# Altium footprint library FM375_LQFP64_SOCKET.PcbLib: 5 footprints
Each footprint in its own frame and in the unit in brackets; x right, y up, seen from the top. Pads: shape width x height; smd on the part's side, far side on the other; paste and mask are expansions set on the pad; w line width, h text height; cw(c..) or ccw(c..) is an arc to the next point about the centre after c.
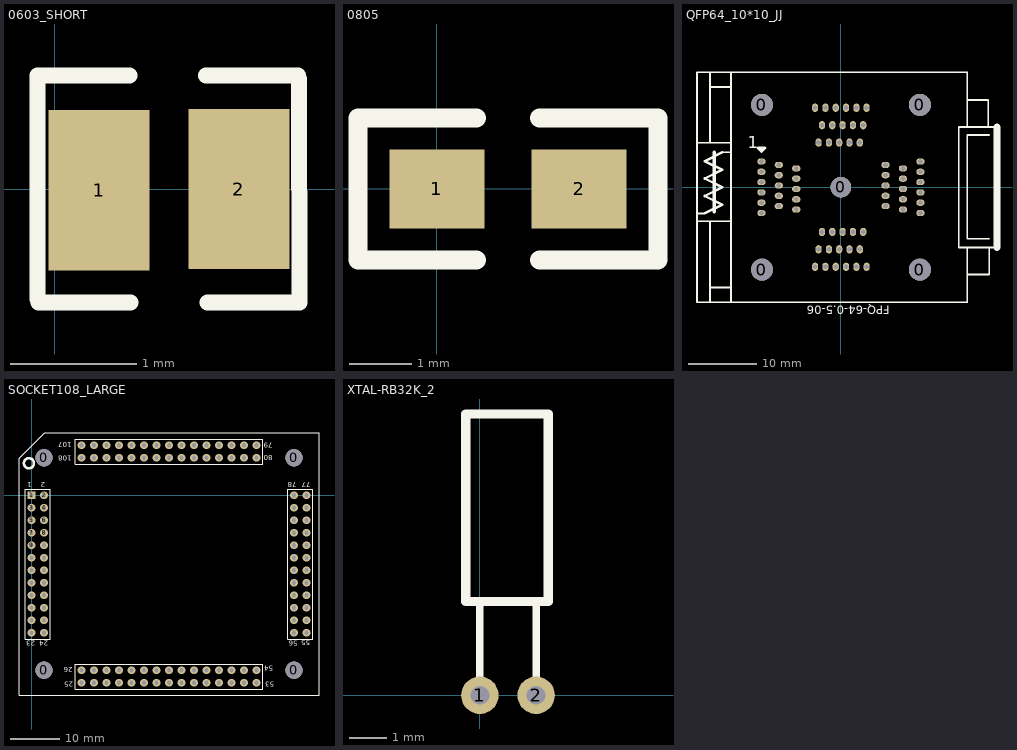
[diagram p0: the footprints below, top view; thin cyan lines are the x and y axes]

## 0603_SHORT [mm]
height 2.54
pads (2):
  rect 0.8x1.27 smd: 1(0.35,-0.01) 2(1.46,0)
Top Overlay:
  lines w0.127: -0.138,-0.874 -0.14,0.9 0.59,0.9 ; -0.13,-0.9 0.6,-0.9 ; 1.2,0.9 1.93,0.9 ; 1.21,-0.9 1.94,-0.9 1.938,0.874

## 0805 [mil]
height 200
pads (2):
  rect 60x50 smd: 1(0,0) 2(90,0)
Top Overlay:
  lines w12: 25,-45 -50,-45 -50,45 25,45 ; 65,-45 140,-45 140,45 65,45

## QFP64_10*10_JJ [mm]
pads (69):
  round 3.2 hole 3.2: 0(-11.5,-12) 0(-11.5,12) 0(11.5,-12) 0(11.5,12)
  round 3 hole 3: 0(0,0)
  oval 1.2x0.9 hole 0.7: 1(-11.58,3.75) 2(-9.04,3.25) 3(-6.5,2.75) 4(-11.58,2.25) 5(-9.04,1.75) 6(-6.5,1.25) 7(-11.58,0.75) 8(-9.04,0.25) 9(-6.5,-0.25) 10(-11.58,-0.75) 11(-9.04,-1.25) 12(-6.5,-1.75) 13(-11.58,-2.25) 14(-9.04,-2.75) 15(-6.5,-3.25) 16(-11.58,-3.75) 33(11.58,-3.75) 34(9.04,-3.25) 35(6.5,-2.75) 36(11.58,-2.25) 37(9.04,-1.75) 38(6.5,-1.25) 39(11.58,-0.75) 40(9.04,-0.25) 41(6.5,0.25) 42(11.58,0.75) 43(9.04,1.25) 44(6.5,1.75) 45(11.58,2.25) 46(9.04,2.75) 47(6.5,3.25) 48(11.58,3.75)
  oval 0.9x1.2 hole 0.7: 17(-3.75,-11.58) 18(-3.25,-9.04) 19(-2.75,-6.5) 20(-2.25,-11.58) 21(-1.75,-9.04) 22(-1.25,-6.5) 23(-0.75,-11.58) 24(-0.25,-9.04) 25(0.25,-6.5) 26(0.75,-11.58) 27(1.25,-9.04) 28(1.75,-6.5) 29(2.25,-11.58) 30(2.75,-9.04) 31(3.25,-6.5) 32(3.75,-11.58) 49(3.75,11.58) 50(3.25,9.04) 51(2.75,6.5) 52(2.25,11.58) 53(1.75,9.04) 54(1.25,6.5) 55(0.75,11.58) 56(0.25,9.04) 57(-0.25,6.5) 58(-0.75,11.58) 59(-1.25,9.04) 60(-1.75,6.5) 61(-2.25,11.58) 62(-2.75,9.04) 63(-3.25,6.5) 64(-3.75,11.58)
Top Overlay:
  lines w0.254: -20.955,-16.764 -20.955,-4.953 ; -20.941,-16.75 -19.036,-16.75 -16.002,-16.75 ; -20.828,-3.81 -19.812,-3.81 ; -19.05,-16.736 -19.05,-14.605 ; -19.05,-5.08 -19.05,-14.605 ; -17.272,5.08 -16.002,5.08 ; -16.002,-14.605 -19.05,-14.605 ; -16.002,-4.953 -16.51,-4.953 -20.828,-4.953 -20.955,-4.953 ; -16.002,6.477 -16.51,6.477 -19.05,6.477 ; -16.002,14.605 -19.05,14.605 ; 18.415,-12.7 21.59,-12.7 21.59,-8.763 ; 18.415,-8.763 18.415,-16.736 18.401,-16.75 16.75,-16.75 -16.002,-16.75 ; 18.415,8.763 18.415,16.736 18.401,16.75 16.75,16.75 -16.002,16.75 ; 18.415,12.7 21.463,12.7 21.463,8.763 ; 21.59,-7.493 18.415,-7.493 18.415,7.62 21.59,7.62 ; 22.733,-8.763 17.145,-8.763 17.145,8.763 22.733,8.763 ; -20.955,-4.953 -20.955,6.477 ; -20.955,6.477 -19.05,6.477 ; -20.955,6.477 -20.955,16.764 -20.941,16.75 -19.05,16.75 ; -19.05,6.477 -19.05,14.605 ; -19.05,14.605 -19.05,16.75 ; -19.05,16.75 -16.002,16.75 ; -16.002,-16.75 -16.002,16.75
  lines w0.381: -19.812,-3.81 -17.272,-2.54 -19.812,-1.27 -17.272,0 -19.812,1.27 -17.272,2.54 -19.812,3.81 -17.272,5.08 ; -12.065,5.715 -11.049,5.715 -11.557,5.207 -12.065,5.715
  lines w0.508: -18.415,-3.556 -18.415,5.08
  lines w1.016: 22.733,-8.763 22.733,8.763
  text "FPQ-64-0.5-06" at 7.112,-17.272 h1.2
  text "1" at -13.589,5.08 h3.05
Bottom Overlay:
  lines w0.381: -12.065,5.715 -11.049,5.715 -11.557,5.207 -12.065,5.715
  text "1" at -12.827,5.08 h3.05

## SOCKET108_LARGE [mil]
pads (112):
  round 137.8 hole 137.8: 0(100,-1400) 0(100,300) 0(2100,-1400) 0(2100,300)
  rect 62x62 hole 35: 1(0,0)
  round 62 hole 35: 2(100,0) 3(0,-100) 4(100,-100) 5(0,-200) 6(100,-200) 7(0,-300) 8(100,-300) 9(0,-400) 10(100,-400) 11(0,-500) 12(100,-500) 13(0,-600) 14(100,-600) 15(0,-700) 16(100,-700) 17(0,-800) 18(100,-800) 19(0,-900) 20(100,-900) 21(0,-1000) 22(100,-1000) 23(0,-1100) 24(100,-1100) 25(400,-1500) 26(400,-1400) 27(500,-1500) 28(500,-1400) 29(600,-1500) 30(600,-1400) 31(700,-1500) 32(700,-1400) 33(800,-1500) 34(800,-1400) 35(900,-1500) 36(900,-1400) 37(1000,-1500) 38(1000,-1400) 39(1100,-1500) 40(1100,-1400) 41(1200,-1500) 42(1200,-1400) 43(1300,-1500) 44(1300,-1400) 45(1400,-1500) 46(1400,-1400) 47(1500,-1500) 48(1500,-1400) 49(1600,-1500) 50(1600,-1400) 51(1700,-1500) 52(1700,-1400) 53(1800,-1500) 54(1800,-1400) 55(2200,-1100) 56(2100,-1100) 57(2200,-1000) 58(2100,-1000) 59(2200,-900) 60(2100,-900) 61(2200,-800) 62(2100,-800) 63(2200,-700) 64(2100,-700) 65(2200,-600) 66(2100,-600) 67(2200,-500) 68(2100,-500) 69(2200,-400) 70(2100,-400) 71(2200,-300) 72(2100,-300) 73(2200,-200) 74(2100,-200) 75(2200,-100) 76(2100,-100) 77(2200,0) 78(2100,0) 79(1800,400) 80(1800,300) 81(1700,400) 82(1700,300) 83(1600,400) 84(1600,300) 85(1500,400) 86(1500,300) 87(1400,400) 88(1400,300) 89(1300,400) 90(1300,300) 91(1200,400) 92(1200,300) 93(1100,400) 94(1100,300) 95(1000,400) 96(1000,300) 97(900,400) 98(900,300) 99(800,400) 100(800,300) 101(700,400) 102(700,300) 103(600,400) 104(600,300) 105(500,400) 106(500,300) 107(400,400) 108(400,300)
Top Overlay:
  circle w20: c-20.63,255.91 r40.31
  lines w10: -100,-1600 2300,-1600 2300,500 105,500 -100,295 -100,-1600 ; -50,-1150 -50,50 150,50 150,-1150 -50,-1150 ; 350,-1550 350,-1350 1850,-1350 1850,-1550 350,-1550 ; 350,250 350,450 1850,450 1850,250 350,250 ; 2050,-1150 2050,50 2250,50 2250,-1150 2050,-1150
  text "108" at 320,315 h40
  text "107" at 320,425 h40
  text "80" at 1930,320 h40
  text "79" at 1930,420 h40
  text "78" at 2120,105 h40
  text "77" at 2235,105 h40
  text "56" at 2130,-1165 h40
  text "55" at 2230,-1160 h40
  text "54" at 1935,-1365 h40
  text "53" at 1940,-1490 h40
  text "25" at 335,-1490 h40
  text "26" at 330,-1375 h40
  text "24" at 135,-1165 h40
  text "23" at 30,-1165 h40
  text "2" at 110,105 h40
  text "1" at 0,105 h40

## XTAL-RB32K_2 [mil]
height 200
pads (2):
  round 40 hole 20: 1(0,0) 2(60,0)
Top Overlay:
  lines w8: 0,14 0,100 ; 60,14 60,100
  lines w10: -15,100 -15,300 73.01,300 73.01,100 -15,100